# EAGLE library part YD-ESP32-S3-COREBOARD (library YD-ESP32-S3)
YD-ESP32-S3-COREBOARD V1.4 dev board (ESP32-S3-WROOM-1 N16R8).
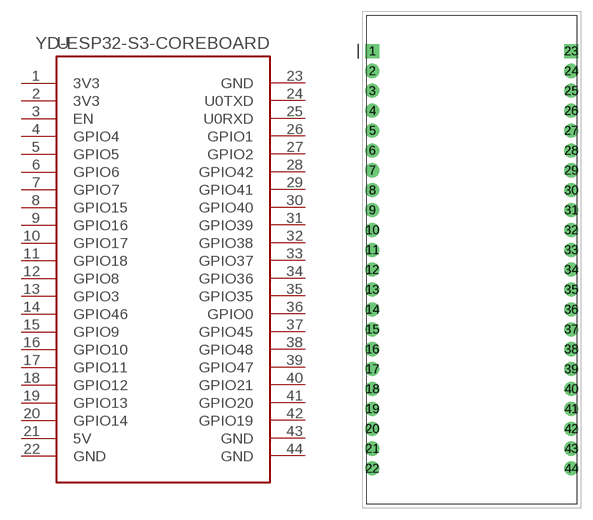
[diagram p0: symbol with the pads of YD-ESP32-S3-COREBOARD; footprint YD-ESP32-S3-COREBOARD]

Designator prefix U

## YD-ESP32-S3-COREBOARD  [YD-ESP32-S3-COREBOARD]
1  3V3  pwr
2  3V3  pwr
3  EN  in
4  GPIO4
5  GPIO5
6  GPIO6
7  GPIO7
8  GPIO15
9  GPIO16
10  GPIO17
11  GPIO18
12  GPIO8
13  GPIO3
14  GPIO46
15  GPIO9
16  GPIO10
17  GPIO11
18  GPIO12
19  GPIO13
20  GPIO14
21  5V  pwr
22  GND  pwr
23  GND  pwr
24  U0TXD
25  U0RXD
26  GPIO1
27  GPIO2
28  GPIO42
29  GPIO41
30  GPIO40
31  GPIO39
32  GPIO38
33  GPIO37
34  GPIO36
35  GPIO35
36  GPIO0
37  GPIO45
38  GPIO48
39  GPIO47
40  GPIO21
41  GPIO20
42  GPIO19
43  GND  pwr
44  GND  pwr

## Footprint YD-ESP32-S3-COREBOARD (pad centres in mm)
YD-ESP32-S3-COREBOARD V1.4 land pattern. 2x22 THT, 25.40 mm row spacing, 2.54 mm pitch, 1.0 mm drill, 1.8 mm pad.
drill 1 pad 1.8 square: 1 -12.7,26.67; 23 12.7,26.67
drill 1 pad 1.8 round: 2 -12.7,24.13; 3 -12.7,21.59; 4 -12.7,19.05; 5 -12.7,16.51; 6 -12.7,13.97; 7 -12.7,11.43; 8 -12.7,8.89; 9 -12.7,6.35; 10 -12.7,3.81; 11 -12.7,1.27; 12 -12.7,-1.27; 13 -12.7,-3.81; 14 -12.7,-6.35; 15 -12.7,-8.89; 16 -12.7,-11.43; 17 -12.7,-13.97; 18 -12.7,-16.51; 19 -12.7,-19.05; 20 -12.7,-21.59; 21 -12.7,-24.13; 22 -12.7,-26.67; 24 12.7,24.13; 25 12.7,21.59; 26 12.7,19.05; 27 12.7,16.51; 28 12.7,13.97; 29 12.7,11.43; 30 12.7,8.89; 31 12.7,6.35; 32 12.7,3.81; 33 12.7,1.27; 34 12.7,-1.27; 35 12.7,-3.81; 36 12.7,-6.35; 37 12.7,-8.89; 38 12.7,-11.43; 39 12.7,-13.97; 40 12.7,-16.51; 41 12.7,-19.05; 42 12.7,-21.59; 43 12.7,-24.13; 44 12.7,-26.67